# Altium footprint library Inductors.PcbLib: 17 footprints (part 1 of 2)
Each footprint in its own frame and in the unit in brackets; x right, y up, seen from the top. Pads: shape width x height; smd on the part's side, far side on the other; paste and mask are expansions set on the pad; w line width, h text height; cw(c..) or ccw(c..) is an arc to the next point about the centre after c.
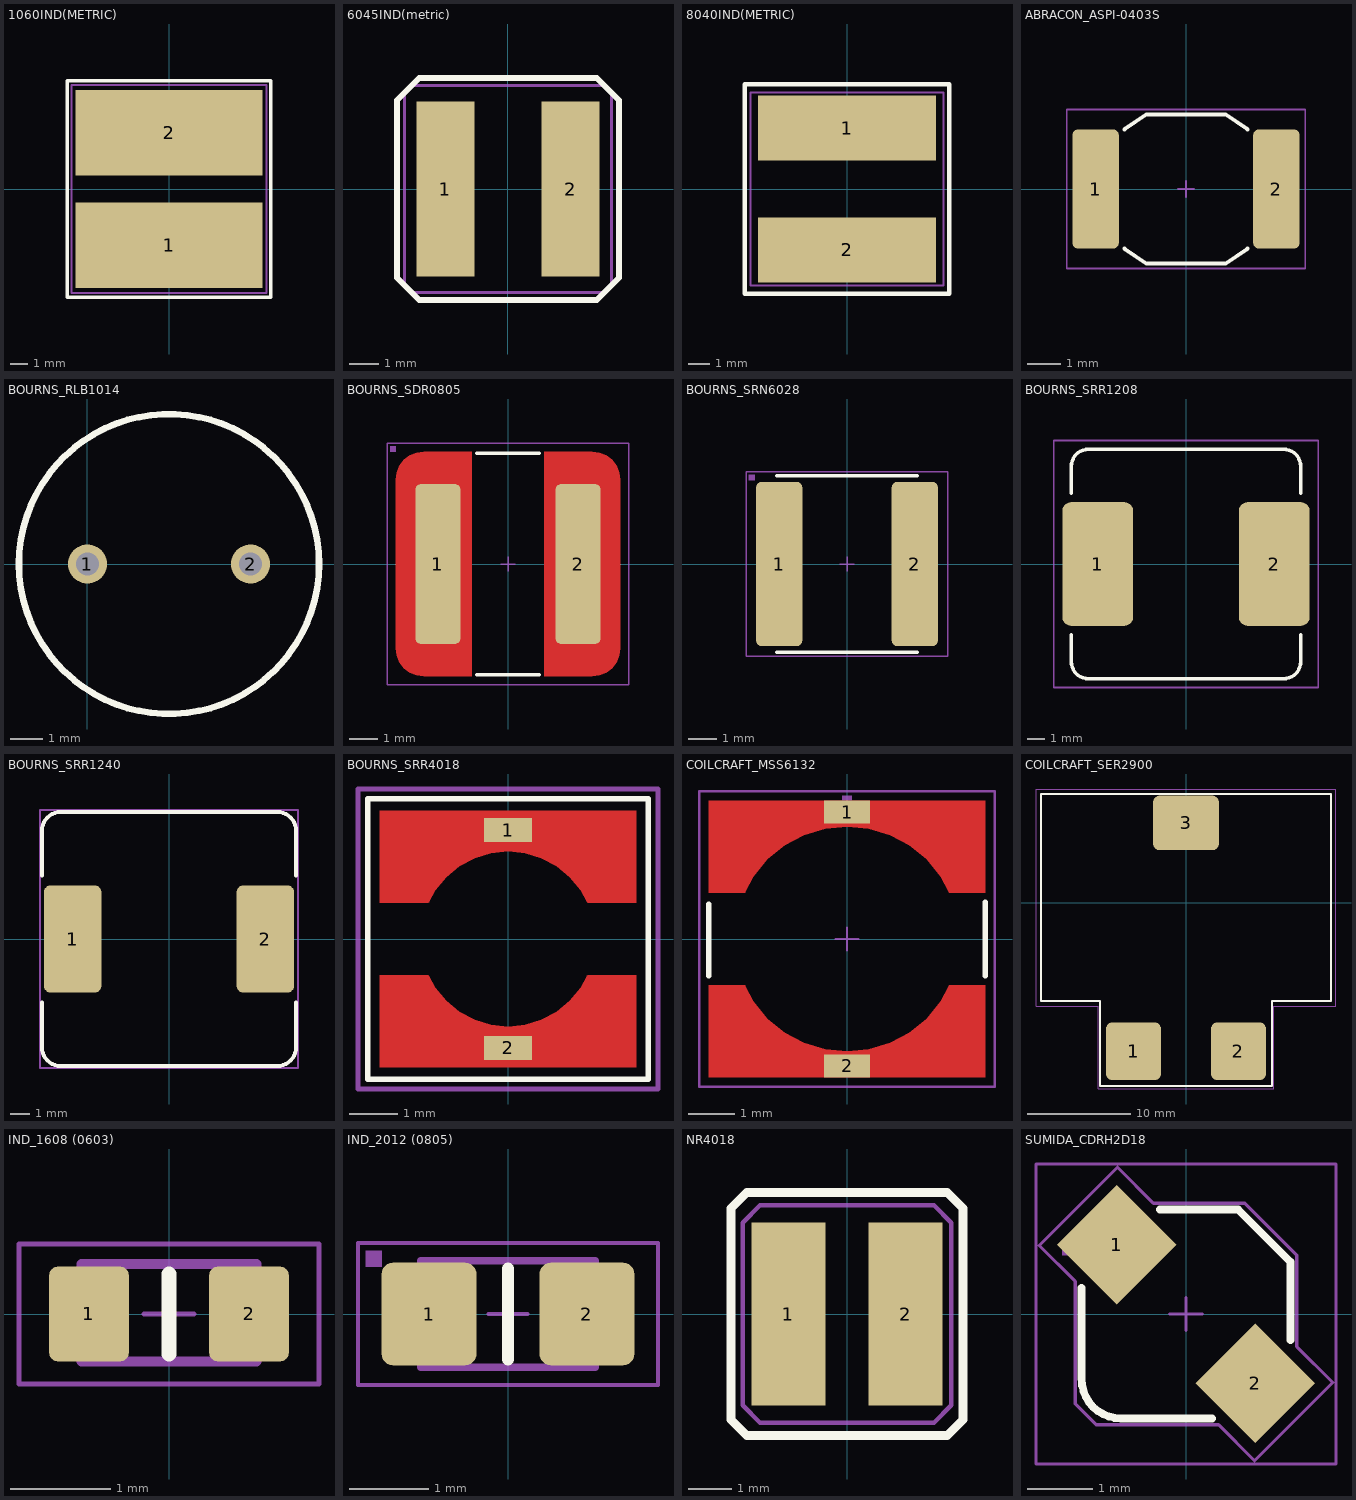
[diagram p0: the footprints below, top view; thin cyan lines are the x and y axes]

## 1060IND(METRIC) [mm]
pads (2):
  rect 11x5 smd: 1(0,-3.3) 2(0,3.3)
Top Overlay:
  lines w0.2: -5.969,-6.35 5.969,-6.35 5.969,6.35 -5.969,6.35 -5.969,-6.35
15. Courtyard TOP:
  lines w0.1: -5.715,-6.096 -5.715,6.096 5.715,6.096 5.715,-6.096 -5.715,-6.096
  text ".designator" at -2.54,-0.762 h2
3D body: height 4.7, standoff 0, extent -5,-5 5,5

## 6045IND(metric) [mm]
pads (2):
  rect 2x6 smd: 1(-2.15,0) 2(2.15,0)
Top Overlay:
  lines w0.2: -3.81,-3.048 -3.048,-3.81 3.048,-3.81 3.81,-3.048 3.81,3.048 3.048,3.81 -3.048,3.81 -3.81,3.048 -3.81,-3.048
15. Courtyard TOP:
  lines w0.1: -3.556,-3.302 -3.556,3.302 -3.302,3.556 3.302,3.556 3.556,3.302 3.556,-3.302 3.302,-3.556 -3.302,-3.556 -3.556,-3.302
  text ".designator" at -2.794,-0.762 h2
3D body: height 4.5, standoff -0.05, extent -2.893,-2.592 2.893,2.592

## 8040IND(METRIC) [mm]
pads (2):
  rect 8.2x3 smd: 1(0,2.8) 2(0,-2.8)
Top Overlay:
  lines w0.2: -4.699,-4.826 4.699,-4.826 4.699,4.826 -4.699,4.826 -4.699,-4.826
15. Courtyard TOP:
  lines w0.1: -4.445,-4.445 -4.445,4.445 4.445,4.445 4.445,-4.445 -4.445,-4.445
  text ".designator" at -2.54,-0.762 h2
3D body: height 5, standoff -0.01, extent -3.5,-3.868 3.5,3.868

## ABRACON_ASPI-0403S [mm]
height 2.92
pads (2):
  rrect23% 1.4x3.6 smd: 1(-2.73,0) 2(2.73,0)
Top Overlay:
  lines w0.12: -1.863,-1.8 -1.2,-2.25 1.2,-2.25 1.863,-1.8 ; -1.863,1.8 -1.2,2.25 1.2,2.25 1.863,1.8
15. Courtyard TOP:
  lines w0.05: -0.25,0 0.25,0 ; 0,-0.25 0,0.25 ; -3.6,-2.4 3.6,-2.4 3.6,2.4 -3.6,2.4 -3.6,-2.4
3D body: height 3, standoff 0, extent -3.304,-2.225 3.3,2.225

## BOURNS_RLB1014 [mm] "Inductor Bourns RLB1014"
height 13
pads (2):
  round 1.2 hole 0.7: 1(0,0) 2(5,0)
Top Overlay:
  circle w0.2: c2.5,0 r4.6
15. Courtyard TOP:
  circle w0.1: c2.5,0 r4.6
  text ".designator" at 1.5,-0.5 h1

## BOURNS_SDR0805 [mm]
height 5.3
pads (2):
  rrect23% 1.6x5.7 smd: 1(-2.5,0) 2(2.5,0)
Top Layer:
  region: 1.3,4 3,4.009 3.261,3.974 3.504,3.873 3.713,3.713 3.873,3.504 3.974,3.261 4.009,3 4,3 4.009,-3 3.974,-3.261 3.873,-3.504 3.713,-3.713 3.504,-3.873 3.261,-3.974 3,-4.009 3,-4 1.3,-4
  region: -1.3,4 -3,4.009 -3.261,3.974 -3.504,3.873 -3.713,3.713 -3.873,3.504 -3.974,3.261 -4.009,3 -4,3 -4.009,-3 -3.974,-3.261 -3.873,-3.504 -3.713,-3.713 -3.504,-3.873 -3.261,-3.974 -3,-4.009 -3,-4 -1.3,-4
Top Overlay:
  lines w0.12: -1.12,-3.95 1.12,-3.95 ; -1.12,3.95 1.12,3.95
15. Courtyard TOP:
  lines w0.05: -0.25,0 0.25,0 ; 0,-0.25 0,0.25 ; -4.3,-4.3 -4.3,4.3 4.3,4.3 4.3,-4.3 -4.3,-4.3
18. Assembly TOP:
  region: -4.2,4.2 -4,4.2 -4,4 -4.2,4
  lines w0.05: -4.3,-4.3 4.3,-4.3 4.3,4.3 -4.3,4.3 -4.3,-4.3
  text ".designator" at -3.3,-0.7 h1.5
3D body: height 5.3, standoff 0, extent -3.869,-3.892 3.9,3.892

## BOURNS_SRN6028 [mm]
height 2.8
pads (2):
  rrect23% 1.6x5.7 smd: 1(-2.35,0) 2(2.35,0)
Top Overlay:
  lines w0.12: -2.44,-3.06 2.44,-3.06 ; -2.44,3.06 2.44,3.06
15. Courtyard TOP:
  lines w0.05: -0.25,0 0.25,0 ; 0,-0.25 0,0.25 ; -3.5,-3.2 3.5,-3.2 3.5,3.2 -3.5,3.2 -3.5,-3.2
18. Assembly TOP:
  region: -3.4,2.9 -3.4,3.1 -3.2,3.1 -3.2,2.9
  lines w0.05: -3.5,-3.2 -3.5,3.2 3.5,3.2 3.5,-3.2 -3.5,-3.2
  text ".designator" at -2.7,-0.7 h1.5
3D body: height 2.8, standoff 0, extent -2.5,-3 2.5,3

## BOURNS_SRR1208 [mm]
height 8.5
pads (2):
  rrect23% 4x7 smd: 1(-5,0) 2(5,0)
Top Overlay:
  lines w0.2: -6.5,-4 -6.5,-5.535 ccw(c-5.535,-5.535) -5.535,-6.5 0,-6.5 5.535,-6.5 ccw(c5.535,-5.535) 6.5,-5.535 6.5,-4 ; -6.5,4 -6.5,5.535 ; 6.5,4 6.5,5.535 ccw(c5.535,5.535) 5.535,6.5 0,6.5 -5.535,6.5 ; -6.5,5.535 cw(c-5.535,5.535) -5.535,6.5 ; -6.5,5.535 cw(c-5.535,5.535) -5.535,6.5
15. Courtyard TOP:
  lines w0.1: -7.5,-7 7.5,-7 7.5,7 -7.5,7 -7.5,-7
  text ".designator" at -2,-0.5 h1
3D body: height 8.5, standoff 0, extent -6.509,-6.509 6.509,6.509

## BOURNS_SRR1240 [mm]
height 4.5
pads (2):
  rrect23% 2.9x5.4 smd: 1(-4.85,0) 2(4.85,0)
Top Overlay:
  lines w0.2: -6.4,-3.2 -6.4,-5.435 ccw(c-5.435,-5.435) -5.435,-6.4 5.435,-6.4 ccw(c5.435,-5.435) 6.4,-5.435 6.4,-3.2 ; -6.4,3.2 -6.4,5.435 cw(c-5.435,5.435) -5.435,6.4 0,6.4 5.435,6.4 cw(c5.435,5.435) 6.4,5.435 6.4,3.2
15. Courtyard TOP:
  lines w0.1: -6.5,-6.5 6.5,-6.5 6.5,6.5 -6.5,6.5 -6.5,-6.5
  text ".designator" at -1.5,-0.5 h1
3D body: height 4.5, standoff 0, extent -6.408,-6.408 6.408,6.408

## BOURNS_SRR4018 [mm]
height 2
pads (2):
  rect 1x0.5 smd paste+0 mask+0: 1(0,2.25) 2(0,-2.25)
Top Layer:
  region: -2.65,0.75 -2.65,2.65 2.65,2.65 2.65,0.75 1.647,0.75 1.634,0.762 1.504,1.005 1.279,1.279 1.005,1.504 0.692,1.671 0.353,1.774 0,1.809 -0.353,1.774 -0.692,1.671 -1.005,1.504 -1.279,1.279 -1.504,1.005 -1.634,0.762 -1.631,0.761 -1.647,0.75
  region: 2.65,-0.75 2.65,-2.65 -2.65,-2.65 -2.65,-0.75 -1.647,-0.75 -1.634,-0.762 -1.504,-1.005 -1.279,-1.279 -1.005,-1.504 -0.692,-1.671 -0.353,-1.774 0,-1.809 0.353,-1.774 0.692,-1.671 1.005,-1.504 1.279,-1.279 1.504,-1.005 1.634,-0.762 1.631,-0.761 1.647,-0.75
Top Overlay:
  lines w0.12: -2.9,-2.9 2.9,-2.9 2.9,2.9 -2.9,2.9 -2.9,-2.9
15. Courtyard TOP:
  lines w0.1: -3.1,-3.1 3.1,-3.1 3.1,3.1 -3.1,3.1 -3.1,-3.1
3D body: height 3, standoff 0, extent -2.48,-2.495 2.5,2.495

## COILCRAFT_MSS6132 [mm]
height 3
pads (2):
  rect 1x0.5 smd paste+0 mask+0: 1(0,2.75) 2(0,-2.75)
Top Layer:
  region: -3,-1 -2.208,-1 -2.212,-1.006 -2.026,-1.354 -1.723,-1.723 -1.354,-2.026 -0.932,-2.251 -0.475,-2.39 0,-2.437 0.475,-2.39 0.932,-2.251 1.354,-2.026 1.723,-1.723 2.026,-1.354 2.212,-1.006 2.208,-1.003 2.208,-1 3,-1 3,-3 -3,-3
  region: -3,1 -2.208,1 -2.212,1.006 -2.026,1.354 -1.723,1.723 -1.354,2.026 -0.932,2.251 -0.475,2.39 0,2.437 0.475,2.39 0.932,2.251 1.354,2.026 1.723,1.723 2.026,1.354 2.212,1.006 2.208,1.003 2.208,1 3,1 3,3 -3,3
Top Overlay:
  lines w0.12: -3,-0.8 -3,0.75 ; 3,-0.8 3,0.8
15. Courtyard TOP:
  lines w0.05: -0.25,0 0.25,0 ; 0,-0.25 0,0.25 ; -3.2,-3.2 -3.2,3.2 3.2,3.2 3.2,-3.2 -3.2,-3.2
18. Assembly TOP:
  region: -0.1,3.1 0.1,3.1 0.1,2.9 -0.1,2.9
  lines w0.05: -3.2,-3.2 3.2,-3.2 3.2,3.2 -3.2,3.2 -3.2,-3.2
  text "L200" at -2.7,-0.7 h1.5
3D body: height 3, standoff 0, extent -2.48,-2.495 2.5,2.495

## COILCRAFT_SER2900 [mm]
pads (3):
  rrect23% 5.33x5.59 smd: 1(-5.075,-14.355) 2(5.075,-14.355)
  rrect23% 6.35x5.28 smd: 3(0,7.72)
Top Overlay:
  lines w0.2: -14,-9.5 -8.3,-9.5 -8.3,-17.7 8.3,-17.7 8.3,-9.5 14,-9.5 14,10.5 -14,10.5 -14,-9.5
15. Courtyard TOP:
  lines w0.1: -14.5,-10 -14.5,11 14.5,11 14.5,-10 8.5,-10 8.5,-18 -8.5,-18 -8.5,-10 -14.5,-10
  text ".designator" at -1,-1 h0.5
  text "." at -8,-17.5 h0.5

## IND_1608 (0603) [mm] "Metric (Imperial)"
height 0.55
pads (2):
  rrect23% 0.8x0.95 smd: 1(-0.8,0) 2(0.8,0)
Top Overlay:
  lines w0.15: 0,-0.4 0,0.4
15. Courtyard TOP:
  lines w0.05: -0.25,0 0.25,0 ; 0,-0.25 0,0.25 ; -1.5,-0.7 1.5,-0.7 1.5,0.7 -1.5,0.7 -1.5,-0.7
17. Comp.body:
  lines w0.1: -0.875,-0.475 0.875,-0.475 0.875,0.5 -0.875,0.5 -0.875,-0.475
18. Assembly TOP:
  lines w0.05: -1.5,-0.7 1.5,-0.7 1.5,0.7 -1.5,0.7 -1.5,-0.7
  text ".designator" at -1.3,-0.35 h0.7
3D body: height 0.55, standoff 0, extent 0.575,-0.475 0.875,0.475
3D body: height 0.55, standoff 0, extent -0.875,-0.475 -0.575,0.475
3D body: height 0.55, standoff 0.01, extent -0.575,-0.475 0.575,0.475

## IND_2012 (0805) [mm] "Metric (Imperial)"
height 0.7
pads (2):
  rrect23% 1.2x1.3 smd: 1(-1,0) 2(1,0)
Top Overlay:
  lines w0.15: 0,-0.575 0,0.575
15. Courtyard TOP:
  lines w0.05: -0.25,0 0.25,0 ; 0,-0.25 0,0.25 ; -1.9,-0.9 -1.9,0.9 1.9,0.9 1.9,-0.9 -1.9,-0.9
17. Comp.body:
  lines w0.1: -1.1,-0.675 -1.1,0.675 1.1,0.675 1.1,-0.675 -1.1,-0.675
18. Assembly TOP:
  region: -1.8,0.8 -1.6,0.8 -1.6,0.6 -1.8,0.6
  lines w0.05: -1.9,-0.9 -1.9,0.9 1.9,0.9 1.9,-0.9 -1.9,-0.9
  text ".designator" at -1.825,-0.5 h1
3D body: height 0.61, standoff -0.01, extent -1.01,-0.635 1.01,0.635

## NR4018 [mm]
pads (2):
  rect 1.7x4.2 smd: 1(-1.35,0) 2(1.35,0)
Top Overlay:
  lines w0.2: -2.667,-2.433 -2.667,-0.267 -2.667,2.433 -2.306,2.794 2.306,2.794 2.667,2.433 2.667,-2.433 2.306,-2.794 -2.306,-2.794 -2.667,-2.433
15. Courtyard TOP:
  lines w0.1: -2.4,-2.1 -2.4,0 -2.4,2.1 -2,2.5 2,2.5 2.4,2.1 2.4,-2.1 2,-2.5 -2,-2.5 -2.4,-2.1
  text ".designator" at -1.524,-0.762 h2
3D body: height 1.8, standoff 0, extent -2,-2 2,2

## SUMIDA_CDRH2D18 [mm] "Sumida inductor package"
pads (2):
  rect 1.3x1.3 smd rot 135: 1(-1.061,1.061) 2(1.061,-1.061)
Top Overlay:
  lines w0.12: -1.6,0.4 -1.6,-1 ccw(c-1,-1) -1,-1.6 0.4,-1.6 ; -0.4,1.6 0.8,1.6 1.6,0.8 1.6,-0.4
15. Courtyard TOP:
  lines w0.05: -0.25,0 0.25,0 ; 0,-0.25 0,0.25 ; -2.3,-2.3 -2.3,2.3 2.3,2.3 2.3,-2.3 -2.3,-2.3
18. Assembly TOP:
  region: -1.9,0.9 -1.9,1.1 -1.7,1.1 -1.7,0.9
  lines w0.05: -2.25,1.05 -1.7,0.5 -1.7,-0.2 -1.7,-1.377 -1.377,-1.7 -0.4,-1.7 0.5,-1.7 1.05,-2.25 2.25,-1.05 1.7,-0.5 1.7,0.9 1.5,1.1 0.9,1.7 -0.5,1.7 -1.05,2.25 -2.25,1.05
  text ".designator" at -1.3,-0.3 h0.7
3D body: height 2, standoff 0, extent -1.538,-1.538 1.538,1.538